# Altium schematic symbol library ORJ-3__FCR6842032R_.SchLib: 1 symbol
Pins are listed as number, name and electrical type; pins without a type are passive.

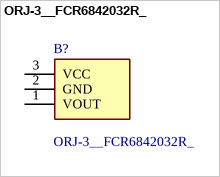
[diagram p0: symbol ORJ-3__FCR6842032R_]

## ORJ-3__FCR6842032R_
designator B?
Fiber Optic Receiver Optical 16Mbps -24dBm 2.7V ~ 5.5V 6.5 mA; Manufacturer_Name: CLIFF ELECTRONIC COMPONENTS; Manufacturer_Part_Number: ORJ-3 (FCR6842032R); Geometry.Height: 11.7mm; TME Electronic Components Part Number: *; TME Electronic Components Price/Stock: *; Datasheet Link: rmnndx00
footprint ORJ3FCR6842032R
pins: 1 VOUT, 2 GND, 3 VCC